# Altium schematic symbol library PVV_RC.SchLib: 49 symbols
Pins are listed as number, name and electrical type; pins without a type are passive.

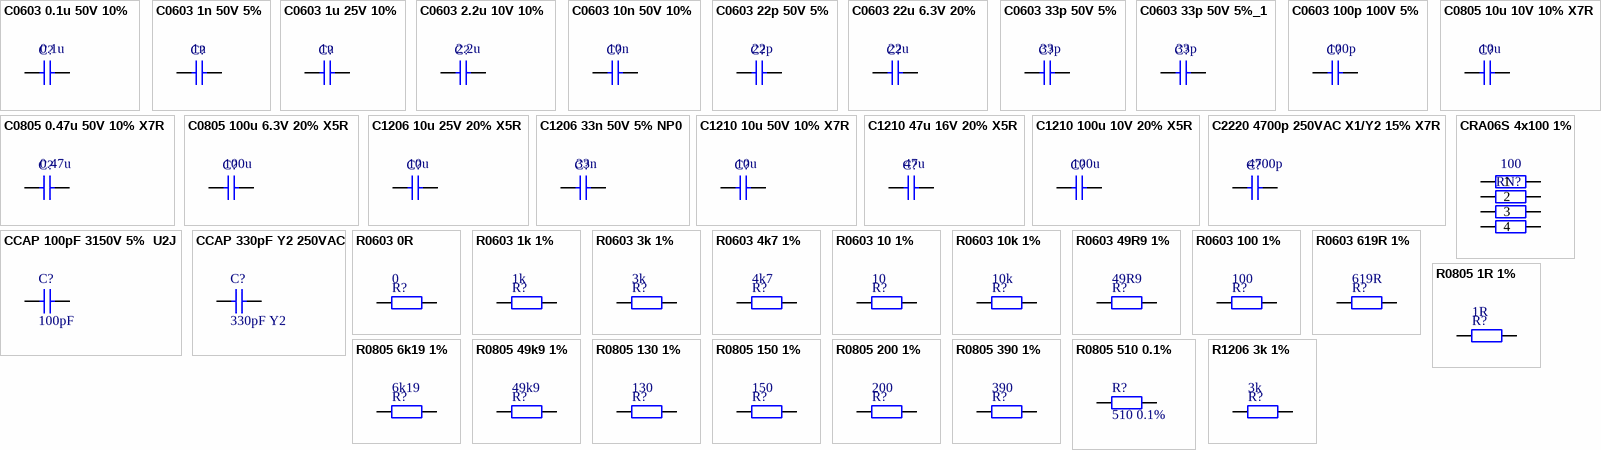
[diagram p0: symbols C0603 0.1u 50V 10% to R1206 3k 1%]

## C0603 0.1u 50V 10%
designator C?, comment 0.1u
SMD 0603 MURATA 50V 10% X7R; PartNumber: GRM188R71H104K; Manufacturer: MURATA; ComponentLink1Description: Datasheet; ComponentLink1URL: \\NAS1\DataSheet\7021\GRM188R71H104K.pdf; Value: 0.1u
footprint SMD_C_0603 (Chip Capacitor, 2-Leads, Body 1,60x0,80mm, IPC Low Density)
pins: 1, 2

## C0603 1n 50V 5%
designator C?, comment 1n
SMD 0603 MURATA 50V 5% NP0; PartNumber: GRM1885C1H102JA01; Manufacturer: MURATA; Value: 1n
footprint SMD_C_0603 (Chip Capacitor, 2-Leads, Body 1,60x0,80mm, IPC Low Density)
pins: 1, 2

## C0603 1u 25V 10%
designator C?, comment 1u
SMD 0603 MURATA 25V 10% X7R; PartNumber: GRM188R71E105KA12; Manufacturer: MURATA; ComponentLink1Description: Datasheet; ComponentLink1URL: \\NAS1\DataSheet\7021\GRM188R71H104K.pdf; Value: 1u
footprint SMD_C_0603 (Chip Capacitor, 2-Leads, Body 1,60x0,80mm, IPC Low Density)
pins: 1, 2

## C0603 2.2u 10V 10%
designator C?, comment 2.2u
SMD 0603 MURATA 10V 10% X7R; PartNumber: GRM188R71A225KE15; Manufacturer: MURATA; Value: 2.2u
footprint SMD_C_0603 (Chip Capacitor, 2-Leads, Body 1,60x0,80mm, IPC Low Density)
pins: 1, 2

## C0603 10n 50V 10%
designator C?, comment 10n
SMD 0603 MURATA 50V 10% X7R; PartNumber: GRM188R71H103K; Manufacturer: MURATA; Value: 10n
footprint SMD_C_0603 (Chip Capacitor, 2-Leads, Body 1,60x0,80mm, IPC Low Density)
pins: 1, 2

## C0603 22p 50V 5%
designator C?, comment 22p
SMD 0603 MURATA 50V 5% NP0; PartNumber: GRM0335C1H220JA01D; Manufacturer: MURATA; Value: 22p
footprint SMD_C_0603 (Chip Capacitor, 2-Leads, Body 1,60x0,80mm, IPC Low Density)
pins: 1, 2

## C0603 22u 6.3V 20%
designator C?, comment 22u
SMD 0603 MURATA 6.3V 20% X5R; PartNumber: GRM188R60J226ME; Manufacturer: MURATA; Value: 22u
footprint SMD_C_0603 (Chip Capacitor, 2-Leads, Body 1,60x0,80mm, IPC Low Density)
pins: 1, 2

## C0603 33p 50V 5%
designator C?, comment 33p
SMD 0603 MURATA 50V 5% NP0; PartNumber: GRM1885C1H330JA01; Manufacturer: MURATA; ComponentLink1Description: Datasheet; ComponentLink1URL: \\NAS1\DataSheet\7770\GRM1885C2A101JA01.pdf; Value: 33p
footprint SMD_C_0603 (Chip Capacitor, 2-Leads, Body 1,60x0,80mm, IPC Low Density)
pins: 1, 2

## C0603 33p 50V 5%_1
designator C?, comment 33p
SMD 0603 MURATA 50V 5% NP0; PartNumber: GRM1885C1H330JA01; Manufacturer: MURATA; ComponentLink1Description: Datasheet; ComponentLink1URL: \\NAS1\DataSheet\7770\GRM1885C2A101JA01.pdf; Value: 33p
footprint SMD_C_0603 (Chip Capacitor, 2-Leads, Body 1,60x0,80mm, IPC Low Density)
pins: 1, 2

## C0603 100p 100V 5%
designator C?, comment 100p
SMD 0603 MURATA 100V 5% NP0; PartNumber: GRM1885C2A101JA01; Manufacturer: MURATA; ComponentLink1Description: Datasheet; ComponentLink1URL: \\NAS1\DataSheet\7770\GRM1885C2A101JA01.pdf; Value: 100p
footprint SMD_C_0603 (Chip Capacitor, 2-Leads, Body 1,60x0,80mm, IPC Low Density)
pins: 1, 2

## C0805 0.47u 50V 10% X7R
designator C?, comment 0.47u
SMD 0805 MURATA 50V 10% X7R; PartNumber: GRM21BR71H474K; Manufacturer: MURATA; Value: 0.47u
footprint SMD_C_0805 (Chip Capacitor, 2-Leads, Body 2,00x1,25mm, IPC Low Density)
pins: 1, 2

## C0805 10u 10V 10% X7R
designator C?, comment 10u
SMD 0805 MURATA 10V 10% X7R; PartNumber: GRM21BR71A106KE51; Manufacturer: MURATA; Value: 10u
footprint SMD_C_0805 (Chip Capacitor, 2-Leads, Body 2,00x1,25mm, IPC Low Density)
pins: 1, 2

## C0805 100u 6.3V 20% X5R
designator C?, comment 100u
SMD 0805 MURATA 6.3V 20% X5R; PartNumber: GRM21BR60J107M; Manufacturer: MURATA; Value: 100u
footprint SMD_C_0805 (Chip Capacitor, 2-Leads, Body 2,00x1,25mm, IPC Low Density)
pins: 1, 2

## C1206 10u 25V 20% X5R
designator C?, comment 10u
SMD 1206 MURATA 25V 20% X5R; PartNumber: GRM31MR61E106M; Manufacturer: MURATA; Value: 10u
footprint SMD_C_1206 (Chip Capacitor, 2-Leads, Body 3,20x1,60mm, IPC Low Density)
pins: 1, 2

## C1206 33n 50V 5% NP0
designator C?, comment 33n
SMD 1206 MURATA 50V 5% NP0; PartNumber: GRM3195C1H333JA01D; Manufacturer: MURATA; Value: 33n
footprint SMD_C_1206 (Chip Capacitor, 2-Leads, Body 3,20x1,60mm, IPC Low Density)
pins: 1, 2

## C1210 10u 50V 10% X7R
designator C?, comment 10u
SMD 1210 MURATA 50V 10% X7R; PartNumber: GRM32ER71H106KA12; Manufacturer: MURATA; Value: 10u
footprint SMD_C_1210 (Chip Capacitor, 2-Leads, Body 3,20x2,50mm, IPC Low Density)
pins: 1, 2

## C1210 47u 16V 20% X5R
designator C?, comment 47u
SMD 1210 MURATA 16V 20% X5R; PartNumber: GRM32ER61C476ME15; Manufacturer: MURATA; Value: 47u
footprint SMD_C_1210 (Chip Capacitor, 2-Leads, Body 3,20x2,50mm, IPC Low Density)
pins: 1, 2

## C1210 100u 10V 20% X5R
designator C?, comment 100u
SMD 1210 MURATA 10V 20% X5R; PartNumber: GRM32ER61A107ME20; Manufacturer: MURATA; Value: 100u
footprint SMD_C_1210 (Chip Capacitor, 2-Leads, Body 3,20x2,50mm, IPC Low Density)
pins: 1, 2

## C2220 4700p 250VAC X1/Y2 15% X7R
designator C?, comment 4700p
SMD 2220 MURATA 250VAC X1/Y2 15% X7R; PartNumber: GA355DR7GF472KW01; Manufacturer: MURATA; Value: 4700p
footprint SMD_C_2220 (Chip2PinSM127P600-8N)
pins: 1, 2

## CCAP 100pF 3150V 5%  U2J
designator C?, comment 100pF
CCAP 100pF 3150V 5%  U2J; PartNumber: GRM42A7U3F101JW31; Manufacturer: MURATA; Value: 100pF
footprint SMD_C_1808 (Chip Capacitor, 2-Leads, Body 4,52x3,25mm, IPC Low Density)
pins: 1, 2

## CCAP 330pF Y2 250VAC
designator C?, comment 330pF Y2
CCAP 330pF Y2 250VAC; PartNumber: RCE5C2A331J0K1H03B; Manufacturer: MURATA; Value: 330pF Y2
footprint CAP Y2 (D=5mm LS=7.5mm)
pins: 1, 2

## CRA06S 4x100 1%
designator RN?, comment 100
SMD RESISTOR ARRAY VISHAY 0.063W 50V 1% 100ppm; PartNumber: CRA06S083100RF; Manufacturer: VISHAY; Value: 100
footprint CRA06S (Chip Array, ConvexS, 8-Leads, Pitch 0,80mm,  Body 3,20x1,50mm,  IPC Low Density)
pins: 1, 2, 3, 4, 5, 6, 7, 8

## R0603 0R
designator R?, comment 0
SMD 0603 VISHAY 0R; PartNumber: CRCW06030000Z0; Manufacturer: VISHAY; Value: 0
footprint SMD_R_0603 (Chip Resistor, 2-Leads, Body 1,55x0,85mm, IPC Low Density)
pins: 1, 2

## R0603 1k 1%
designator R?, comment 1k
SMD 0603 VISHAY 0.1W 75V 1% 100ppm; PartNumber: CRCW06031K00FK; Manufacturer: VISHAY; Value: 1k
footprint SMD_R_0603 (Chip Resistor, 2-Leads, Body 1,55x0,85mm, IPC Low Density)
pins: 1, 2

## R0603 3k 1%
designator R?, comment 3k
SMD 0603 VISHAY 0.1W 75V 1% 100ppm; PartNumber: CRCW06033K00FK; Manufacturer: VISHAY; ComponentLink1URL: \\NAS1\DataSheet\6406\dcrcw.pdf; ComponentLink1Description: Datasheet; Value: 3k
footprint SMD_R_0603 (Chip Resistor, 2-Leads, Body 1,55x0,85mm, IPC Low Density)
pins: 1, 2

## R0603 4k7 1%
designator R?, comment 4k7
SMD 0603 VISHAY 0.1W 75V 1% 100ppm; PartNumber: CRCW06034K70FK; Manufacturer: VISHAY; Value: 4k7
footprint SMD_R_0603 (Chip Resistor, 2-Leads, Body 1,55x0,85mm, IPC Low Density)
pins: 1, 2

## R0603 10 1%
designator R?, comment 10
SMD 0603 VISHAY 0.1W 75V 1% 100ppm; PartNumber: CRCW060310R0FK; Manufacturer: VISHAY; Value: 10
footprint SMD_R_0603 (Chip Resistor, 2-Leads, Body 1,55x0,85mm, IPC Low Density)
pins: 1, 2

## R0603 10k 1%
designator R?, comment 10k
SMD 0603 VISHAY 0.1W 75V 1% 100ppm; PartNumber: CRCW060310K0FK; Manufacturer: VISHAY; ComponentLink1URL: \\NAS1\DataSheet\6406\dcrcw.pdf; ComponentLink1Description: Datasheet; Value: 10k
footprint SMD_R_0603 (Chip Resistor, 2-Leads, Body 1,55x0,85mm, IPC Low Density)
pins: 1, 2

## R0603 49R9 1%
designator R?, comment 49R9
SMD 0603 VISHAY 0.1W 75V 1% 100ppm; PartNumber: CRCW060349R9FK; Manufacturer: VISHAY; Value: 49R9
footprint SMD_R_0603 (Chip Resistor, 2-Leads, Body 1,55x0,85mm, IPC Low Density)
pins: 1, 2

## R0603 100 1%
designator R?, comment 100
SMD 0603 VISHAY 0.1W 75V 1% 100ppm; PartNumber: CRCW0603100RFK; Manufacturer: VISHAY; Value: 100
footprint SMD_R_0603 (Chip Resistor, 2-Leads, Body 1,55x0,85mm, IPC Low Density)
pins: 1, 2

## R0603 619R 1%
designator R?, comment 619R
SMD 0603 VISHAY 0.1W 75V 1% 100ppm; PartNumber: CRCW0603619RFK; Manufacturer: VISHAY; ComponentLink1URL: \\NAS1\DataSheet\6406\dcrcw.pdf; ComponentLink1Description: Datasheet; Value: 619R
footprint SMD_R_0603 (Chip Resistor, 2-Leads, Body 1,55x0,85mm, IPC Low Density)
pins: 1, 2

## R0805 1R 1%
designator R?, comment 1R
SMD 0805 VISHAY 0.125W 150V 1% 100ppm; PartNumber: CRCW08051R00FK; Manufacturer: VISHAY; Value: 1R
footprint SMD_R_0805 (Chip Resistor, 2-Leads, Body 2,05x1,22mm, IPC Low Density)
pins: 1, 2

## R0805 6k19 1%
designator R?, comment 6k19
SMD 0805 VISHAY 0.1W 150V 1% 100ppm; PartNumber: CRCW08056K19FK; Manufacturer: VISHAY; Value: 6k19
footprint SMD_R_0805 (Chip Resistor, 2-Leads, Body 2,05x1,22mm, IPC Low Density)
pins: 1, 2

## R0805 49k9 1%
designator R?, comment 49k9
SMD 0805 VISHAY 0.125W 150V 1% 100ppm; PartNumber: CRCW080549K9FK; Manufacturer: VISHAY; Value: 49k9
footprint SMD_R_0805 (Chip Resistor, 2-Leads, Body 2,05x1,22mm, IPC Low Density)
pins: 1, 2

## R0805 130 1%
designator R?, comment 130
SMD 0805 VISHAY 0.1W 150V 1% 100ppm; PartNumber: CRCW0805130RFK; Manufacturer: VISHAY; Value: 130
footprint SMD_R_0805 (Chip Resistor, 2-Leads, Body 2,05x1,22mm, IPC Low Density)
pins: 1, 2

## R0805 150 1%
designator R?, comment 150
SMD 0805 VISHAY 0.1W 150V 1% 100ppm; PartNumber: CRCW0805150RFK; Manufacturer: VISHAY; Value: 150
footprint SMD_R_0805 (Chip Resistor, 2-Leads, Body 2,05x1,22mm, IPC Low Density)
pins: 1, 2

## R0805 200 1%
designator R?, comment 200
SMD 0805 VISHAY 0.1W 150V 1% 100ppm; PartNumber: CRCW0805200RFK; Manufacturer: VISHAY; Value: 200
footprint SMD_R_0805 (Chip Resistor, 2-Leads, Body 2,05x1,22mm, IPC Low Density)
pins: 1, 2

## R0805 390 1%
designator R?, comment 390
SMD 0805 VISHAY 0.125W 150V 1% 100ppm; PartNumber: CRCW0805390RFK; Manufacturer: VISHAY; Value: 390
footprint SMD_R_0805 (Chip Resistor, 2-Leads, Body 2,05x1,22mm, IPC Low Density)
pins: 1, 2

## R0805 510 0.1%
designator R?, comment 510 0.1%
SMD 0805 VISHAY 0.1W 150V 0.1% 25ppm; PartNumber: TNPW0805510RBE; Value: 510; Manufacturer: VISHAY
footprint SMD_R_0805 (Chip Resistor, 2-Leads, Body 2,05x1,22mm, IPC Low Density)
pins: 1, 2

## R1206 3k 1%
designator R?, comment 3k
SMD 1206 VISHAY 0.25W 200V 1% 100ppm; PartNumber: CRCW12063K00FK; Manufacturer: VISHAY; Value: 3k
footprint SMD_R_1206 (Chip Resistor, 2-Leads, Body 3,15x1,60mm, IPC Low Density)
pins: 1, 2

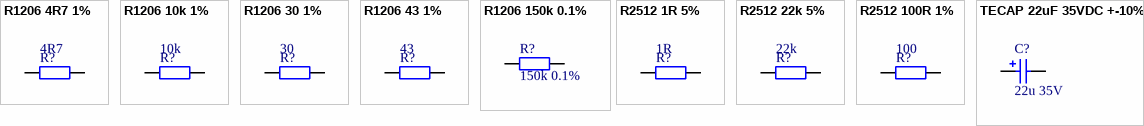
[diagram p1: symbols R1206 4R7 1% to TECAP 22uF 35VDC +-10%]

## R1206 4R7 1%
designator R?, comment 4R7
SMD 1206 VISHAY 0.25W 200V 1% 100ppm; PartNumber: CRCW12064R7FK; Manufacturer: VISHAY; Value: 4R7
footprint SMD_R_1206 (Chip Resistor, 2-Leads, Body 3,15x1,60mm, IPC Low Density)
pins: 1, 2

## R1206 10k 1%
designator R?, comment 10k
SMD 1206 VISHAY 0.25W 200V 1% 100ppm; PartNumber: CRCW120610K0FK; Manufacturer: VISHAY; Value: 10k
footprint SMD_R_1206 (Chip Resistor, 2-Leads, Body 3,15x1,60mm, IPC Low Density)
pins: 1, 2

## R1206 30 1%
designator R?, comment 30
SMD 1206 VISHAY 0.25W 200V 1% 100ppm; PartNumber: CRCW120630R0FK; Manufacturer: VISHAY; Value: 30
footprint SMD_R_1206 (Chip Resistor, 2-Leads, Body 3,15x1,60mm, IPC Low Density)
pins: 1, 2

## R1206 43 1%
designator R?, comment 43
SMD 1206 VISHAY 0.25W 200V 1% 100ppm; PartNumber: CRCW120643R0FK; Manufacturer: VISHAY; Value: 43
footprint SMD_R_1206 (Chip Resistor, 2-Leads, Body 3,15x1,60mm, IPC Low Density)
pins: 1, 2

## R1206 150k 0.1%
designator R?, comment 150k 0.1%
SMD 1206 VISHAY 0.25W 200V 0.1% 25ppm; PartNumber: TNPW1206150KBE; Manufacturer: VISHAY; Value: 150k
footprint SMD_R_1206 (Chip Resistor, 2-Leads, Body 3,15x1,60mm, IPC Low Density)
pins: 1, 2

## R2512 1R 5%
designator R?, comment 1R
SMD 2512 VISHAY 1W 500V 5% 200ppm; PartNumber: CRCW25121R00JN; Manufacturer: VISHAY; Value: 1R
footprint SMD_R_2512 (Chip Resistor, 2-Leads, Body 6,30x3,15mm, IPC Low Density)
pins: 1, 2

## R2512 22k 5%
designator R?, comment 22k
SMD 2512 VISHAY 1W 500V 5% 200ppm; PartNumber: CRCW251222K0JN; Manufacturer: VISHAY; Value: 22k
footprint SMD_R_2512 (Chip Resistor, 2-Leads, Body 6,30x3,15mm, IPC Low Density)
pins: 1, 2

## R2512 100R 1%
designator R?, comment 100
SMD 2512 VISHAY 1W 500V 1% 100ppm; PartNumber: CRCW2512100RFK; Manufacturer: VISHAY; Value: 100
footprint SMD_R_2512 (Chip Resistor, 2-Leads, Body 6,30x3,15mm, IPC Low Density)
pins: 1, 2

## TECAP 22uF 35VDC +-10%
designator C?, comment 22u 35V
SMD SIZE D TANTALUM AVX 35V 10%; PartNumber: TAJD226K035TNJ; Manufacturer: AVX; Value: 22u 35V
footprint TAJD (Molded Capacitor, 2-Leads, Body 7,30x4,35mm, IPC Medium Density)
pins: 1, 2